# Altium schematic symbol library CAP 0.1uF 630V.Schlib: 1 symbol
Pins are listed as number, name and electrical type; pins without a type are passive.

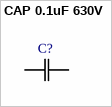
[diagram p0: symbol CAP 0.1uF 630V]

## CAP 0.1uF 630V
designator C?
CAP CER 0.1uF 630V X7R 1210
pins: 1 C1, 2 C2